# Altium footprint library PREN2Lib.PcbLib: 13 footprints
Each footprint in its own frame and in the unit in brackets; x right, y up, seen from the top. Pads: shape width x height; smd on the part's side, far side on the other; paste and mask are expansions set on the pad; w line width, h text height; cw(c..) or ccw(c..) is an arc to the next point about the centre after c.
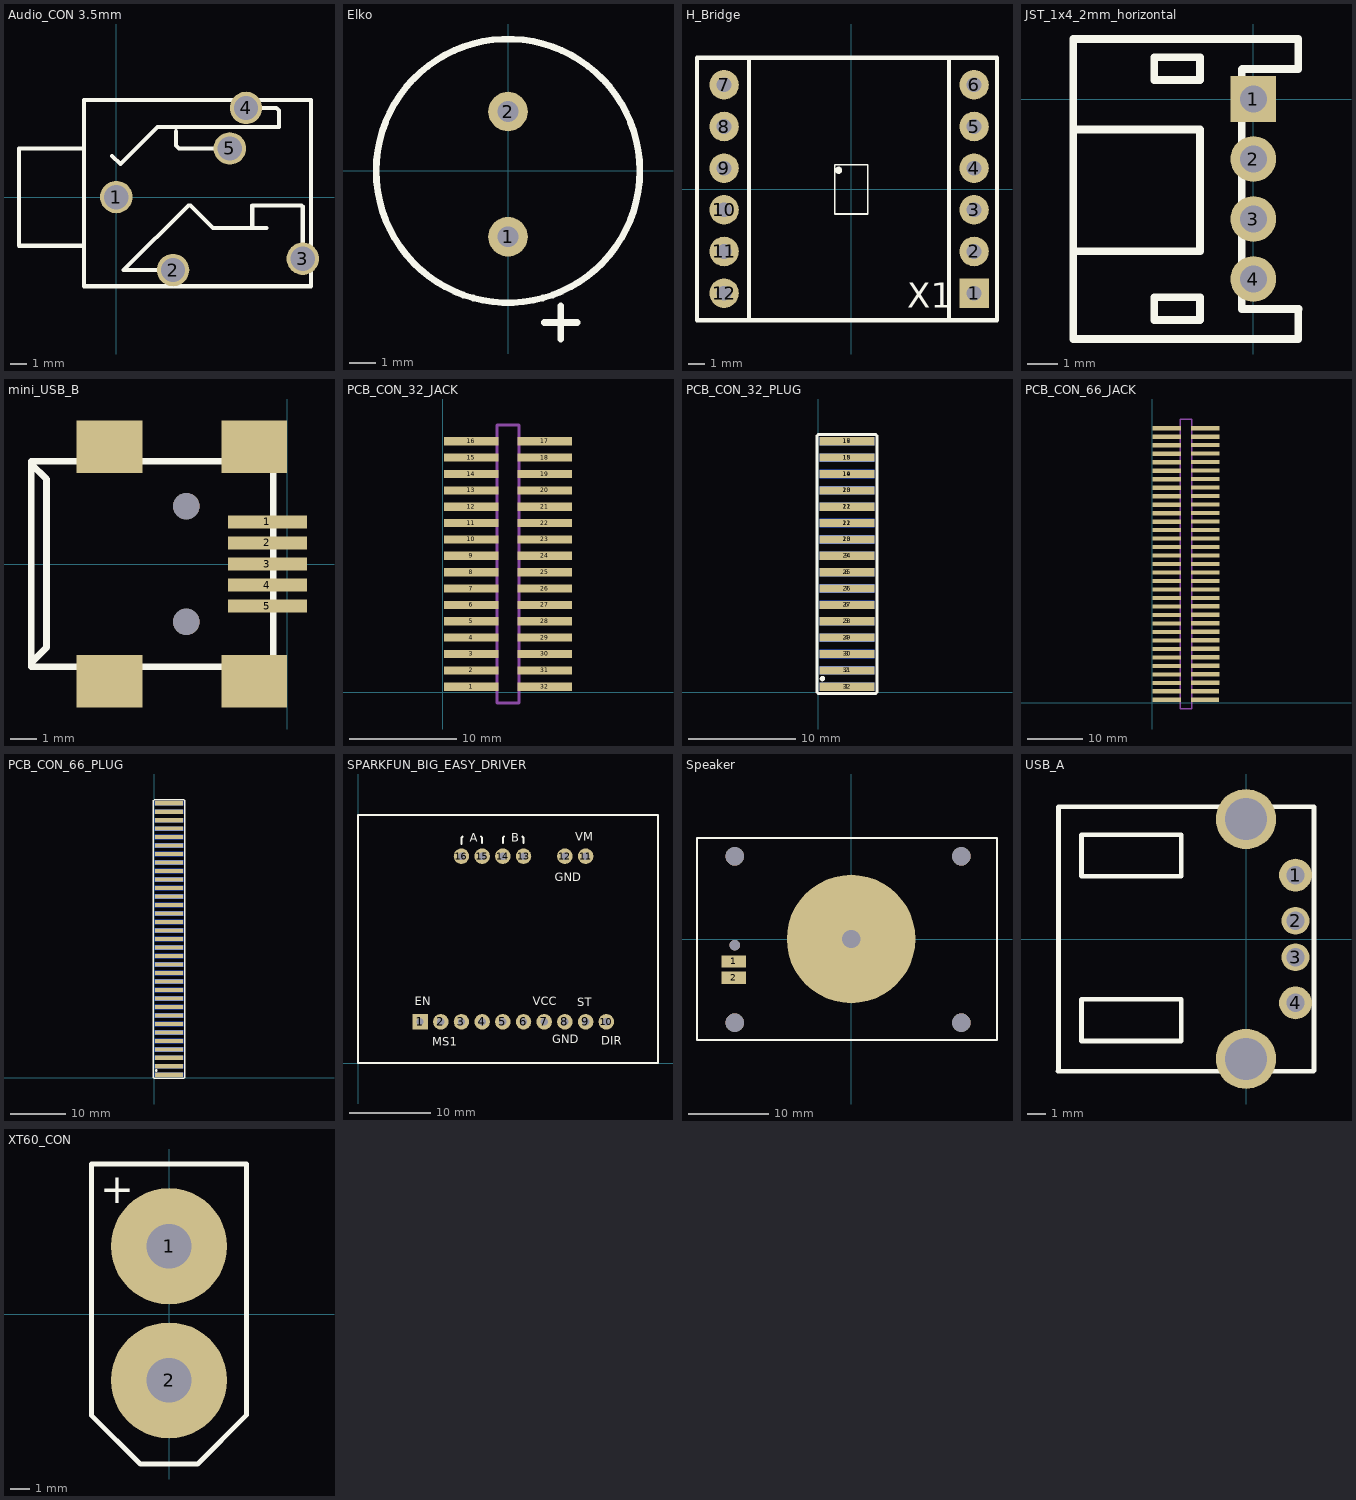
[diagram p0: the footprints below, top view; thin cyan lines are the x and y axes]

## Audio_CON 3.5mm [mm] "3.5 mm Audio Phone Jack with Disconnect Pins"
height 6.5
pads (5):
  round 2 hole 1.5: 1(0,0) 2(3.5,-4.5) 3(11.5,-3.8) 4(8,5.5) 5(7,3)
Top Overlay:
  lines w0.254: -2,-3.175 -2,3 ; -0.254,2.54 0.254,2.032 2.54,4.318 10.033,4.318 10.033,5.334 9.867,5.5 8,5.5 ; 3.5,-4.5 0.453,-4.5 4.445,-0.508 4.572,-0.508 5.969,-1.905 9.271,-1.905 ; 3.683,4.064 3.683,3.175 3.858,3 7,3 ; 8.382,-1.905 8.382,-0.508 11.43,-0.508 11.5,-0.578 11.5,-3.8 ; -2,3 -6,3 -6,-3 -2,-3 -2,-5.5 12,-5.5 12,6 -2,6 -2,3

## Elko [mil] "electrolyt capacitor 5.08mm radial"
height 590.55
pads (2):
  round 60 hole 31.5: 1(0,-100) 2(0,90)
Top Overlay:
  circle w10: c0,0 r200
  lines w10: 55,-230 105,-230 ; 80,-255 80,-205

## H_Bridge [mm] "H_Bridge Shield can be Plugged in"
height 12
pads (12):
  rect 1.8x1.8 hole 0.9: 1(7.493,-6.35)
  round 1.8 hole 0.9: 2(7.493,-3.81) 3(7.493,-1.27) 4(7.493,1.27) 5(7.493,3.81) 6(7.493,6.35) 7(-7.747,6.35) 8(-7.747,3.81) 9(-7.747,1.27) 10(-7.747,-1.27) 11(-7.747,-3.81) 12(-7.747,-6.35)
Top Overlay:
  circle w0.254: c-0.762,1.143 r0.09
  lines w0.1: -1,-1.525 1,-1.525 1,1.475 -1,1.475 -1,-1.525
  lines w0.254: -9.398,-8.001 -9.398,8.001 8.89,8.001 8.89,-8.001 -9.271,-8.001 ; -6.223,-8.001 -6.223,8.001 ; 5.969,-8.001 5.969,8.001
  text "X1" at 3.429,-7.239 h1.52

## JST_1x4_2mm_horizontal [mil] "JST Jack Connecter 2mm Grid"
height 196.85
pads (4):
  rect 60x60 hole 35.43: 1(0,0)
  round 60 hole 35.43: 2(0,-78.74) 3(0,-157.48) 4(0,-236.22)
Top Overlay:
  lines w10: -236.22,-200 -70,-200 -70,-40 -235,-40 ; -236.22,-314.96 59.06,-314.96 59.06,-275.94 59.41,-275.59 -15,-275.59 -15,38.74 -14.37,39.37 59.06,39.37 59.06,78.74 -236.22,78.74 -236.22,-314.96 ; -130,-290 -130,-260 -70,-260 -70,-290 -130,-290 ; -130,25 -70,25 -70,55 -130,55 -130,25

## mini_USB_B [mm] "mini-USB_B smd jack"
height 4.1
pads (11):
  rect 3x0.5 smd: 1(-0.75,1.6) 2(-0.75,0.8) 3(-0.75,0) 4(-0.75,-0.8) 5(-0.75,-1.6)
  rect 2.5x2 smd: ""(-6.75,-4.45) ""(-6.75,4.45) ""(-1.25,-4.45) ""(-1.25,4.45)
  round 1 hole 1: ""(-3.83,-2.2) ""(-3.83,2.2)
Top Overlay:
  lines w0.254: -9.73,-3.81 -9.73,-3.761 -9.144,-3.175 -9.144,3.224 -9.73,3.81 ; -9.73,-3.9 -0.53,-3.9 -0.53,3.9 -9.73,3.9 -9.73,-3.9

## PCB_CON_32_JACK [mil] "Another PCB with the plug is going to be plugged in this PCB jack"
pads (32):
  rect 200x30 smd: 1(105,20) 2(105,80) 3(105,140) 4(105,200) 5(105,260) 6(105,320) 7(105,380) 8(105,440) 9(105,500) 10(105,560) 11(105,620) 12(105,680) 13(105,740) 14(105,800) 15(105,860) 16(105,920) 17(375,920) 18(375,860) 19(375,800) 20(375,740) 21(375,680) 22(375,620) 23(375,560) 24(375,500) 25(375,440) 26(375,380) 27(375,320) 28(375,260) 29(375,200) 30(375,140) 31(375,80) 32(375,20)
Mechanical 1:
  lines w10: 200,-40 200,980 280,980 280,-40 200,-40

## PCB_CON_32_PLUG [mil] "This PCB plug is going to be plugged into a PCB jack"
pads (32):
  rect 200x30 smd: 1(105,20) 2(105,80) 3(105,140) 4(105,200) 5(105,260) 6(105,320) 7(105,380) 8(105,440) 9(105,500) 10(105,560) 11(105,620) 12(105,680) 13(105,740) 14(105,800) 15(105,860) 16(105,920)
  rect 200x30 smd far side: 17(105,920) 18(105,860) 19(105,800) 20(105,740) 21(105,680) 22(105,620) 23(105,560) 24(105,500) 25(105,440) 26(105,380) 27(105,320) 28(105,260) 29(105,200) 30(105,140) 31(105,80) 32(105,20)
Top Overlay:
  circle w10: c15,50 r5
  lines w10: -5,0 0,-5 210,-5 215,0 215,940 210,945 0,945 -5,940 -5,0
Bottom Overlay:
  lines w10: -5,0 0,-5 210,-5 215,0 215,940 210,945 0,945 -5,940 -5,0

## PCB_CON_66_JACK [mil] "Another PCB with the plug is going to be plugged in this PCB jack"
pads (66):
  rect 200x30 smd: 1(104.5,19.5) 2(104.5,79.5) 3(104.5,139.5) 4(104.5,199.5) 5(104.5,259.5) 6(104.5,319.5) 7(104.5,379.5) 8(104.5,439.5) 9(104.5,499.5) 10(104.5,559.5) 11(104.5,619.5) 12(104.5,679.5) 13(104.5,739.5) 14(104.5,799.5) 15(104.5,859.5) 16(104.5,919.5) 17(104.5,979.5) 18(104.5,1039.5) 19(104.5,1099.5) 20(104.5,1159.5) 21(104.5,1219.5) 22(104.5,1279.5) 23(104.5,1339.5) 24(104.5,1399.5) 25(104.5,1459.5) 26(104.5,1519.5) 27(104.5,1579.5) 28(104.5,1639.5) 29(104.5,1699.5) 30(104.5,1759.5) 31(104.5,1819.5) 32(104.5,1879.5) 33(104.5,1939.5) 34(375.5,1940.5) 35(375.5,1880.5) 36(375.5,1820.5) 37(375.5,1760.5) 38(375.5,1700.5) 39(375.5,1640.5) 40(375.5,1580.5) 41(375.5,1520.5) 42(375.5,1460.5) 43(375.5,1400.5) 44(375.5,1340.5) 45(375.5,1280.5) 46(375.5,1220.5) 47(375.5,1160.5) 48(375.5,1100.5) 49(375.5,1040.5) 50(375.5,980.5) 51(375.5,920.5) 52(375.5,860.5) 53(375.5,800.5) 54(375.5,740.5) 55(375.5,680.5) 56(375.5,620.5) 57(375.5,560.5) 58(375.5,500.5) 59(375.5,440.5) 60(375.5,380.5) 61(375.5,320.5) 62(375.5,260.5) 63(375.5,200.5) 64(375.5,140.5) 65(375,80) 66(375,20)
Mechanical 1:
  lines w10: 200,-45 280,-45 280,2005 200,2005 200,-45

## PCB_CON_66_PLUG [mil] "This PCB plug is going to be plugged into a PCB jack"
pads (66):
  rect 200x30 smd: 1(105,20) 2(105,80) 3(105,140) 4(105,200) 5(105,260) 6(105,320) 7(105,380) 8(105,440) 9(105,500) 10(105,560) 11(105,620) 12(105,680) 13(105,740) 14(105,800) 15(105,860) 16(105,920) 17(105,980) 18(105,1040) 19(105,1100) 20(105,1160) 21(105,1220) 22(105,1280) 23(105,1340) 24(105,1400) 25(105,1460) 26(105,1520) 27(105,1580) 28(105,1640) 29(105,1700) 30(105,1760) 31(105,1820) 32(105,1880) 33(105,1940)
  rect 200x30 smd far side: 34(105,1940) 35(105,1880) 36(105,1820) 37(105,1760) 38(105,1700) 39(105,1640) 40(105,1580) 41(105,1520) 42(105,1460) 43(105,1400) 44(105,1340) 45(105,1280) 46(105,1220) 47(105,1160) 48(105,1100) 49(105,1040) 50(105,980) 51(105,920) 52(105,860) 53(105,800) 54(105,740) 55(105,680) 56(105,620) 57(105,560) 58(105,500) 59(105,440) 60(105,380) 61(105,320) 62(105,260) 63(105,200) 64(105,140) 65(105,80) 66(105,20)
Top Overlay:
  circle w10: c15,50 r5
  lines w10: -5,1960 -5,0 0,-5 210,-5 215,0 215,1960 210,1965 0,1965
Bottom Overlay:
  lines w10: -5,5 0,0 5,-5 210,-5 215,0 215,1960 210,1965 -5,1965 -5,5

## SPARKFUN_BIG_EASY_DRIVER [mm] "Driver for stepper motor"
height 20
pads (16):
  rect 1.905x1.905 hole 0.9: 1(7.62,5.08)
  round 1.905 hole 0.9: 2(10.16,5.08) 3(12.7,5.08) 4(15.24,5.08) 5(17.78,5.08) 6(20.32,5.08) 7(22.86,5.08) 8(25.4,5.08) 9(27.94,5.08) 10(30.48,5.08) 11(27.94,25.4) 12(25.4,25.4) 13(20.32,25.4) 14(17.78,25.4) 15(15.24,25.4) 16(12.7,25.4)
Top Overlay:
  lines w0.254: 12.7,26.924 12.7,27.686 12.827,27.813 ; 15.113,27.813 15.24,27.686 15.24,27.051 ; 17.78,27.051 17.78,27.686 17.907,27.813 ; 20.193,27.813 20.32,27.686 20.32,27.559 20.32,27.432 20.32,27.051 ; 0,0 36.83,0 36.83,30.48 0,30.48 0,0
  text "EN" at 6.985,7.112 h1.02
  text "MS1" at 9.144,2.159 h1.02
  text "VCC" at 21.463,7.112 h1.02
  text "GND" at 23.876,2.413 h1.02
  text "ST" at 26.924,6.985 h1.02
  text "DIR" at 29.845,2.286 h1.02
  text "VM" at 26.67,27.305 h1.02
  text "GND" at 24.13,22.352 h1.02
  text "A" at 13.716,27.178 h1.02
  text "B" at 18.796,27.178 h1.02

## Speaker [mm] "Sony Ericson Speaker"
height 5
pads (8):
  rect 3.048x1.524 smd: 1(-14.605,-2.794) 2(-14.605,-4.826)
  round 2.3 hole 2.3 unplated: ""(-14.478,-10.414) ""(-14.478,10.287) ""(13.722,-10.414) ""(13.722,10.287)
  round 1.3 hole 1.3 unplated: ""(-14.478,-0.762)
  round 16 hole 2.3 unplated: ""(0,0)
Top Overlay:
  lines w0.254: 18.123,-12.573 -19.177,-12.573 -19.177,12.573 18.161,12.573 18.161,-12.573

## USB_A [mm] "USB A jack print mounted"
height 7.5
pads (6):
  round 1.8 hole 1: 1(2.71,3.5) 4(2.71,-3.5)
  round 1.524 hole 1: 2(2.71,1) 3(2.71,-1)
  round 3.3 hole 2.3: ""(0,-6.57) ""(0,6.57)
Top Overlay:
  lines w0.254: -10.302,-7.239 3.698,-7.239 ; -10.28,-7.25 -10.28,7.25 3.72,7.25 3.72,-7.217 ; -9.017,-5.588 -9.017,-3.302 -3.556,-3.302 -3.556,-5.588 -9.017,-5.588 ; -9.017,3.429 -3.556,3.429 -3.556,5.715 -9.017,5.715 -9.017,3.429

## XT60_CON [mm] "LiPo Accumulator Connector"
height 25
pads (2):
  round 6 hole 2.3: 1(0,3.5) 2(0,-3.429)
Top Overlay:
  lines w0.254: -4,-5.25 -1.48,-7.75 1.48,-7.75 4,-5.23 4,7.75 -4,7.75 -4,-5.25
  text "+" at -3.556,5.715 h1.52